# EAGLE library part LT3023 (library Bauteile)
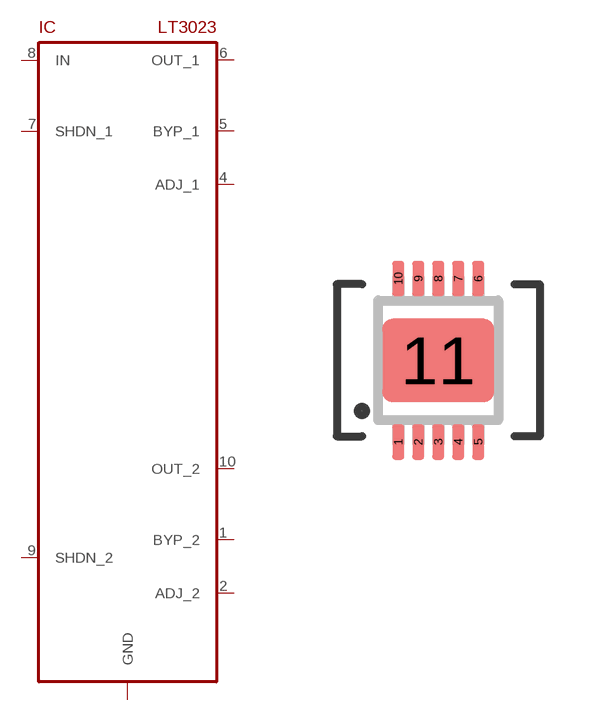
[diagram p84: symbol with the pads of MSOP10-PWR; footprint MSOP10-PWR]

Designator prefix IC

## LT3023  [MSOP10-PWR]
1  BYP_2
2  ADJ_2
3  GND
4  ADJ_1
5  BYP_1
6  OUT_1
7  SHDN_1
8  IN
9  SHDN_2
10  OUT_2
11  GND

## Footprint MSOP10-PWR (pad centres in mm)
smd 0.305 x 0.889: 1 -1,-2.045; 2 -0.5,-2.045; 3 0,-2.045; 4 0.5,-2.045; 5 1,-2.045; 6 1,2.045; 7 0.5,2.045; 8 0,2.045; 9 -0.5,2.045; 10 -1,2.045
smd 2.794 x 2.083: 11 0,0